# EAGLE library part CONN_2X30_ZZ (library GPLIB_CONN)
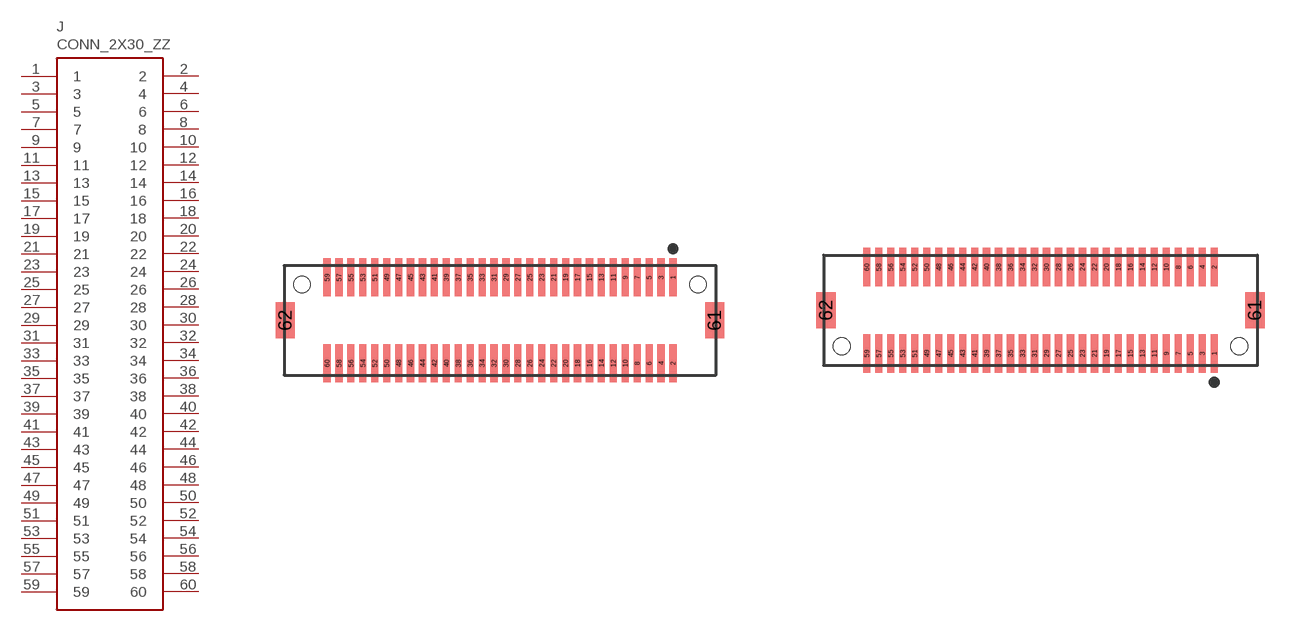
[diagram p44: symbol with the pads of CONN_2X30_0.5MM_SM_ST_10132797_PLUG; footprints CONN_2X30_0.5MM_SM_ST_10132797_PLUG, CONN_2X30_0.5MM_SM_ST_10132798_RECEPTACLE]

Designator prefix J

## CONN_2X30_ZZ_10132797-067100LF  [CONN_2X30_0.5MM_SM_ST_10132797_PLUG]
1  1  pas
2  2  pas
3  3  pas
4  4  pas
5  5  pas
6  6  pas
7  7  pas
8  8  pas
9  9  pas
10  10  pas
11  11  pas
12  12  pas
13  13  pas
14  14  pas
15  15  pas
16  16  pas
17  17  pas
18  18  pas
19  19  pas
20  20  pas
21  21  pas
22  22  pas
23  23  pas
24  24  pas
25  25  pas
26  26  pas
27  27  pas
28  28  pas
29  29  pas
30  30  pas
31  31  pas
32  32  pas
33  33  pas
34  34  pas
35  35  pas
36  36  pas
37  37  pas
38  38  pas
39  39  pas
40  40  pas
41  41  pas
42  42  pas
43  43  pas
44  44  pas
45  45  pas
46  46  pas
47  47  pas
48  48  pas
49  49  pas
50  50  pas
51  51  pas
52  52  pas
53  53  pas
54  54  pas
55  55  pas
56  56  pas
57  57  pas
58  58  pas
59  59  pas
60  60  pas

## CONN_2X30_ZZ_10132798-062100LF  [CONN_2X30_0.5MM_SM_ST_10132798_RECEPTACLE]
Pads as for CONN_2X30_0.5MM_SM_ST_10132797_PLUG

## Footprint CONN_2X30_0.5MM_SM_ST_10132797_PLUG (pad centres in mm)
smd 0.3 x 1.6: 1 7.25,1.8; 2 7.25,-1.8; 3 6.75,1.8; 4 6.75,-1.8; 5 6.25,1.8; 6 6.25,-1.8; 7 5.75,1.8; 8 5.75,-1.8; 9 5.25,1.8; 10 5.25,-1.8; 11 4.75,1.8; 12 4.75,-1.8; 13 4.25,1.8; 14 4.25,-1.8; 15 3.75,1.8; 16 3.75,-1.8; 17 3.25,1.8; 18 3.25,-1.8; 19 2.75,1.8; 20 2.75,-1.8; 21 2.25,1.8; 22 2.25,-1.8; 23 1.75,1.8; 24 1.75,-1.8; 25 1.25,1.8; 26 1.25,-1.8; 27 0.75,1.8; 28 0.75,-1.8; 29 0.25,1.8; 30 0.25,-1.8; 31 -0.25,1.8; 32 -0.25,-1.8; 33 -0.75,1.8; 34 -0.75,-1.8; 35 -1.25,1.8; 36 -1.25,-1.8; 37 -1.75,1.8; 38 -1.75,-1.8; 39 -2.25,1.8; 40 -2.25,-1.8; 41 -2.75,1.8; 42 -2.75,-1.8; 43 -3.25,1.8; 44 -3.25,-1.8; 45 -3.75,1.8; 46 -3.75,-1.8; 47 -4.25,1.8; 48 -4.25,-1.8; 49 -4.75,1.8; 50 -4.75,-1.8; 51 -5.25,1.8; 52 -5.25,-1.8; 53 -5.75,1.8; 54 -5.75,-1.8; 55 -6.25,1.8; 56 -6.25,-1.8; 57 -6.75,1.8; 58 -6.75,-1.8; 59 -7.25,1.8; 60 -7.25,-1.8
smd 0.8 x 1.5: 61 9,0; 62 -9,0
hole 0.7 at -8.3,1.5
hole 0.7 at 8.3,1.5

## Footprint CONN_2X30_0.5MM_SM_ST_10132798_RECEPTACLE (pad centres in mm)
smd 0.3 x 1.6: 1 7.25,-1.8; 2 7.25,1.8; 3 6.75,-1.8; 4 6.75,1.8; 5 6.25,-1.8; 6 6.25,1.8; 7 5.75,-1.8; 8 5.75,1.8; 9 5.25,-1.8; 10 5.25,1.8; 11 4.75,-1.8; 12 4.75,1.8; 13 4.25,-1.8; 14 4.25,1.8; 15 3.75,-1.8; 16 3.75,1.8; 17 3.25,-1.8; 18 3.25,1.8; 19 2.75,-1.8; 20 2.75,1.8; 21 2.25,-1.8; 22 2.25,1.8; 23 1.75,-1.8; 24 1.75,1.8; 25 1.25,-1.8; 26 1.25,1.8; 27 0.75,-1.8; 28 0.75,1.8; 29 0.25,-1.8; 30 0.25,1.8; 31 -0.25,-1.8; 32 -0.25,1.8; 33 -0.75,-1.8; 34 -0.75,1.8; 35 -1.25,-1.8; 36 -1.25,1.8; 37 -1.75,-1.8; 38 -1.75,1.8; 39 -2.25,-1.8; 40 -2.25,1.8; 41 -2.75,-1.8; 42 -2.75,1.8; 43 -3.25,-1.8; 44 -3.25,1.8; 45 -3.75,-1.8; 46 -3.75,1.8; 47 -4.25,-1.8; 48 -4.25,1.8; 49 -4.75,-1.8; 50 -4.75,1.8; 51 -5.25,-1.8; 52 -5.25,1.8; 53 -5.75,-1.8; 54 -5.75,1.8; 55 -6.25,-1.8; 56 -6.25,1.8; 57 -6.75,-1.8; 58 -6.75,1.8; 59 -7.25,-1.8; 60 -7.25,1.8
smd 0.8 x 1.5: 61 8.95,0; 62 -8.95,0
hole 0.7 at -8.3,-1.5
hole 0.7 at 8.3,-1.5